# Altium schematic symbol library SCH - POWER - SWITCHMODE - TI TPS566235RJN.SchLib: 1 symbol
Pins are listed as number, name and electrical type; pins without a type are passive.

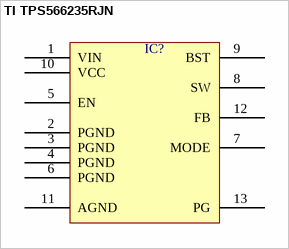
[diagram p0: symbol TI TPS566235RJN]

## TI TPS566235RJN
designator IC?  (value not drawn)
pins: 1 VIN, 2 PGND, 3 PGND, 4 PGND, 5 EN, 6 PGND, 7 MODE, 8 SW, 9 BST, 10 VCC, 11 AGND, 12 FB, 13 PG